# Altium schematic symbol library SIM900.SchLib: 1 symbol
Pins are listed as number, name and electrical type; pins without a type are passive.

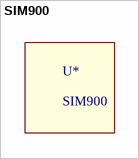
[diagram p0: symbol SIM900]

## SIM900
designator U*
footprint SIM900